# EAGLE library part 6621XX231724_662108231724 (library Wurth_Connectors_WR-MPC3)
WR-MPC3 3.00 mm Male Header Dual Row Right Angled with SMT Solder Tabs - SMT - Reel - Selective Gold Kind Properties Pitch 3 mm Rows Dual Type Right Angled Operating Temperature -40 up to +105 °C Durability 75 Mating cycles Material Properties Insulator Material LCP Insulator Color Black Insulator Flammability Rating UL94 V-0 Pin Material Copper Alloy Pin Plating Selective Gold Electrical Properties IR 5 A Working Voltage 250 V (AC) Withstanding Voltage 1500 V (AC) Contact Resistance 10 mΩ Packaging Properties Packaging Tape and Reel Certification UL Approval E323964 <https://www.we-online.com/components/media/o726917v209%206620xx231722_Multi-Parts.jpg> Details see: www.we-online.com/components/products/WR-MPC3_3_00MM_MALE_HEADER_DUAL_ROW_RIGHT_ANGLED_WITH_SMT_SOLDER_TABS_SMT_REEL_SELECTIVE_GOLD <www.we-online.com/catalog/WR-MPC3_3_00MM_MALE_HEADER_DUAL_ROW_RIGHT_ANGLED_WITH_SMT_SOLDER_TABS_SMT_REEL_SELECTIVE_GOLD/?utm_source=eagle_model&utm_medium=description_link&utm_campaign=eisos_eagle> Created by Ella Wu 2023-10-12 2023 (C) Würth Elektronik
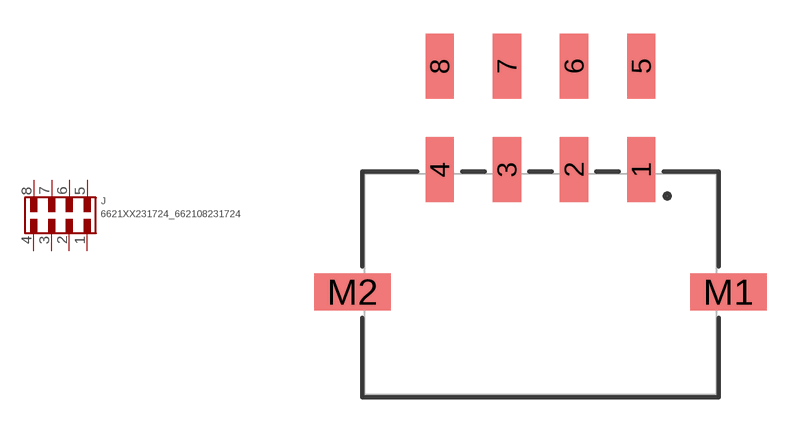
[diagram p153: symbol with the pads of 662108231724; footprint 662108231724]

Designator prefix J

## 6621XX231724_662108231724 (CONTACT-RESISTANCE: 10Ohm; DATASHEET-URL: https://www.we-online.com/redexpert/spec/662108231724?ae; GENDER: Male; IR: 5A; MOUNT: SMT; PART-NUMBER: 662108231724; PINS: 8; PITCH: 3mm; ROWS: Dual; TOL-R: max.; TYPE: Right Angled; VALUE: 662108231724; WORKING-VOLTAGE: 250V(AC))  [662108231724]
1  1  pas
2  2  pas
3  3  pas
4  4  pas
5  5  pas
6  6  pas
7  7  pas
8  8  pas

## Footprint 662108231724 (pad centres in mm)
WR-MPC3 3.00 mm Male Header Dual Row Right Angled with SMT Solder Tabs - SMT - Reel - Selective Gold 8Pins
smd 1.27 x 2.92: 1 4.5,5.13; 2 1.5,5.13; 3 -1.5,5.13; 4 -4.5,5.13; 5 4.5,9.75; 6 1.5,9.75; 7 -1.5,9.75; 8 -4.5,9.75
smd 3.43 x 1.65: M1 8.395,-0.35; M2 -8.395,-0.35